# Altium schematic symbol library Schlib1.SchLib: 13 symbols
Pins are listed as number, name and electrical type; pins without a type are passive.

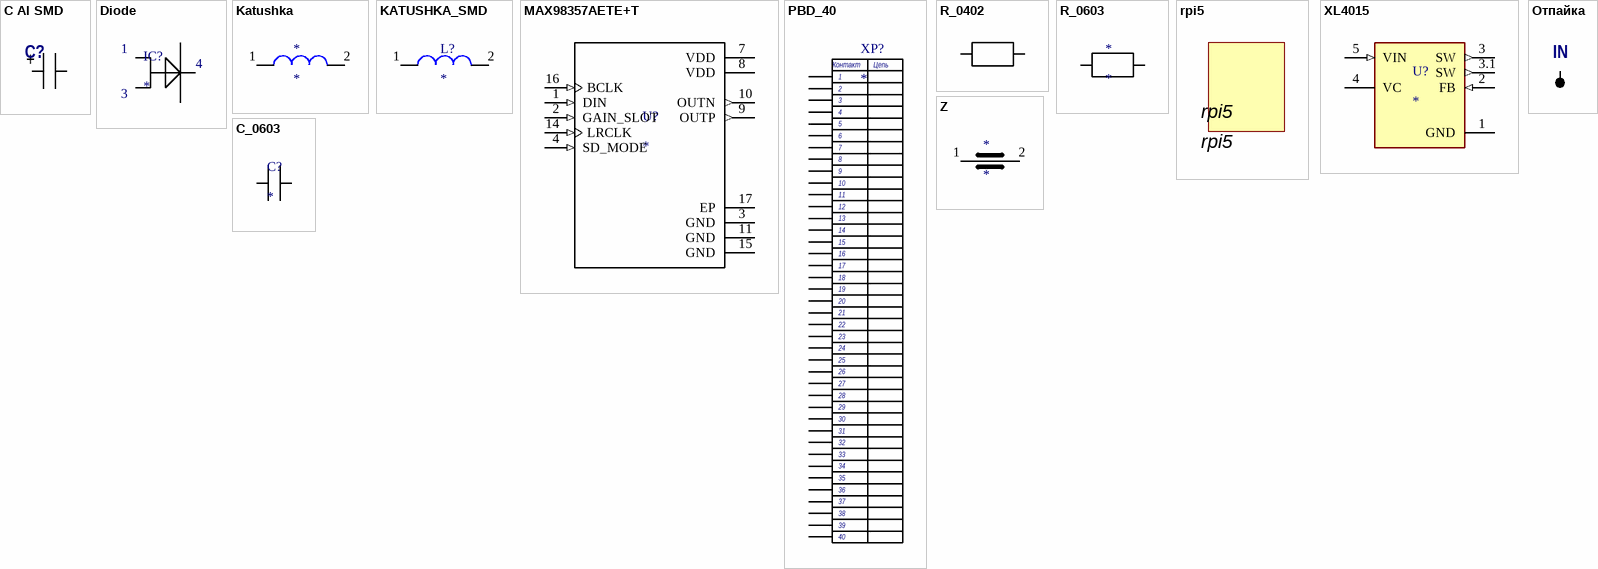
[diagram p0: symbols C Al SMD to С_0603]

## C Al SMD
designator C?  (value not drawn)
Конденсатор ECAP
footprint ECAP 10-10 (Конденсатор электролит ЧИП (SMD))
pins: 1 -, 2 +

## Diode
designator IC?
Linear Voltage Regulator IC Positive Fixed 1 Output 500mA DPAK; MF: STMicroelectronics; MP: LF33CDT; SnapEDA_Link: https://www.snapeda.com/parts/LF33CDT/STMicroelectronics/view-part/?ref=snap; Package: TO-252 STMicroelectronics; Value: *; Check_prices: https://www.snapeda.com/parts/LF33CDT/STMicroelectronics/view-part/?ref=eda
footprint DPACK
pins: 1, 3, 4 GND

## Katushka
designator *
footprint Katushka
pins: 1 0, 2

## KATUSHKA_SMD
designator L?
footprint KATUSHKA_SMD (IHLP6767GZER470M11, ЧИП-индуктивность экранированная 47мкГн ±20% 8,7A 42,7мОм 6767 лента на катушке)
pins: 1 0, 2

## MAX98357AETE+T
designator U?
Tiny, Low-Cost, PCM Class D Amplifier with Class AB Performance; MF: Analog Devices; MP: MAX98357AETE+T; SnapEDA_Link: https://www.snapeda.com/parts/MAX98357AETE+T/Analog+Devices/view-part/?ref=snap; Package: TQFN-16 Maxim; Value: *; Check_prices: https://www.snapeda.com/parts/MAX98357AETE+T/Analog+Devices/view-part/?ref=eda
footprint QFN50P300X300X80-17N
pins: 1 DIN (in), 2 GAIN_SLOT (in), 3 GND (power), 4 SD_MODE (in), 7 VDD (power), 8 VDD (power), 9 OUTP (out), 10 OUTN (out), 11 GND (power), 14 LRCLK (in), 15 GND (power), 16 BCLK (in), 17 EP (power)

## PBD_40
designator XP?
footprint PBD40_8.5
pins: 1, 2, 3, 4, 5, 6, 7, 8, 9, 10, 11, 12, 13, 14, 15, 16, 17, 18, 19, 20, 21, 22, 23, 24, 25, 26, 27, 28, 29, 30, 31, 32, 33, 34, 35, 36, 37, 38, 39, 40
text: Контакт; Цепь

## R_0402
designator ?  (value not drawn)
Резисторы плёночные (SMD; МЛТ; С2-33Н; MP9xxx)
footprint Res_0402 3D (Резистор ЧИП (SMD))
pins: 1, 2

## R_0603
designator *
footprint Res_0603 3D (Резистор ЧИП (SMD))
pins: 1, 2

## rpi5
designator rpi5
footprint rpi5

## XL4015
designator U?
5A 180KHz 36V Buck DC to DC Converter; MF: XLSEMI; MP: XL4015; SnapEDA_Link: https://www.snapeda.com/parts/XL4015/XLSEMI/view-part/?ref=snap; Package: None; Value: *; Check_prices: https://www.snapeda.com/parts/XL4015/XLSEMI/view-part/?ref=eda
footprint CONV_XL4015
pins: 1 GND (power), 2 FB (in), 3 SW (out), 3.1 SW (out), 4 VC, 5 VIN (in)

## Z
designator *
Феррит
footprint Ferrit_1210 (Феррит ЧИП (SMD))
pins: 1, 2

## Отпайка
designator IN  (value not drawn)
Отпайка для проводника
footprint Отпайка 0,8 (D=0.8mm)
pins: 1

## С_0603
designator C?
footprint CAP 0603 3D (Конденсатор керамический ЧИП (SMD))
pins: 1 -, 2 +